# Altium schematic symbol library 64128M_lcd.SchLib: 2 symbols
Pins are listed as number, name and electrical type; pins without a type are passive.

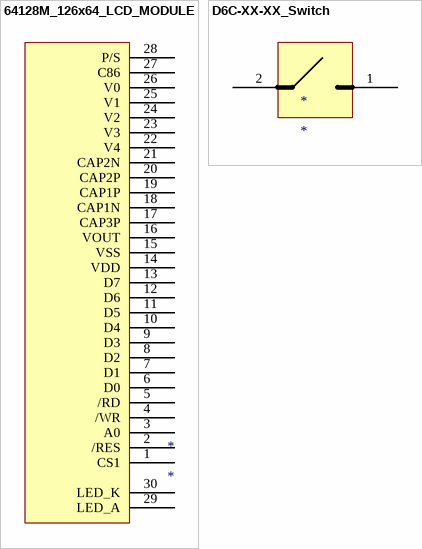
[diagram p0: symbols 64128M_126x64_LCD_MODULE to D6C-XX-XX_Switch]

## 64128M_126x64_LCD_MODULE
designator *
64128M Series LCD Module (128 x 64 DOTS)
footprint 64128M_LCD
pins: 1 CS1, 2 /RES, 3 A0, 4 /WR, 5 /RD, 6 D0, 7 D1, 8 D2, 9 D3, 10 D4, 11 D5, 12 D6, 13 D7, 14 VDD, 15 VSS, 16 VOUT, 17 CAP3P, 18 CAP1N, 19 CAP1P, 20 CAP2P, 21 CAP2N, 22 V4, 23 V3, 24 V2, 25 V1, 26 V0, 27 C86, 28 P/S, 29 LED_A, 30 LED_K

## D6C-XX-XX_Switch
designator *
footprint D6C-00-F1_White-Switch
pins: 1, 2